# EAGLE library part XRJK*6 (library con-xmultiple)
RJ11 Connector without LED, 6 position, 6 contacts, shielded, thrue hole Source: XRJK-S-01-6-6-0-2G2-NO(01).pdf
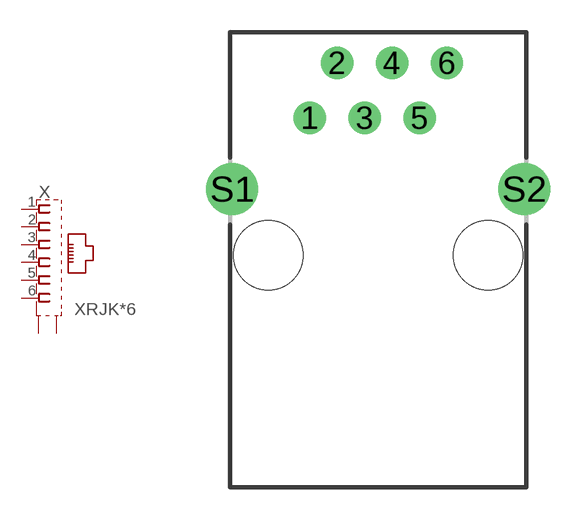
[diagram p2: symbol with the pads of XRJK-S-01-6-6-0-2G2-NO; footprint XRJK-S-01-6-6-0-2G2-NO]

Designator prefix X

## XRJK-S-01-6-6-0-2G2-NO  [XRJK-S-01-6-6-0-2G2-NO]
1  1  pas
2  2  pas
3  3  pas
4  4  pas
5  5  pas
6  6  pas
S1  S  pas
S2  S  pas

## Footprint XRJK-S-01-6-6-0-2G2-NO (pad centres in mm)
RJ11 Connector without LED, 6 position, 6 contacts, shielded, thrue hole Source: XRJK-S-01-6-6-0-2G2-NO(01).pdf
drill 0.9 pad 1.5: 1 -3.175,6.35; 2 -1.905,8.89; 3 -0.635,6.35; 4 0.635,8.89; 5 1.905,6.35; 6 3.175,8.89
drill 1.6 pad 2.184: S1 -6.75,3.05; S2 6.75,3.05
hole 3.2 at -5.08,0
hole 3.2 at 5.08,0